# EAGLE library part LT1014 (library IC)
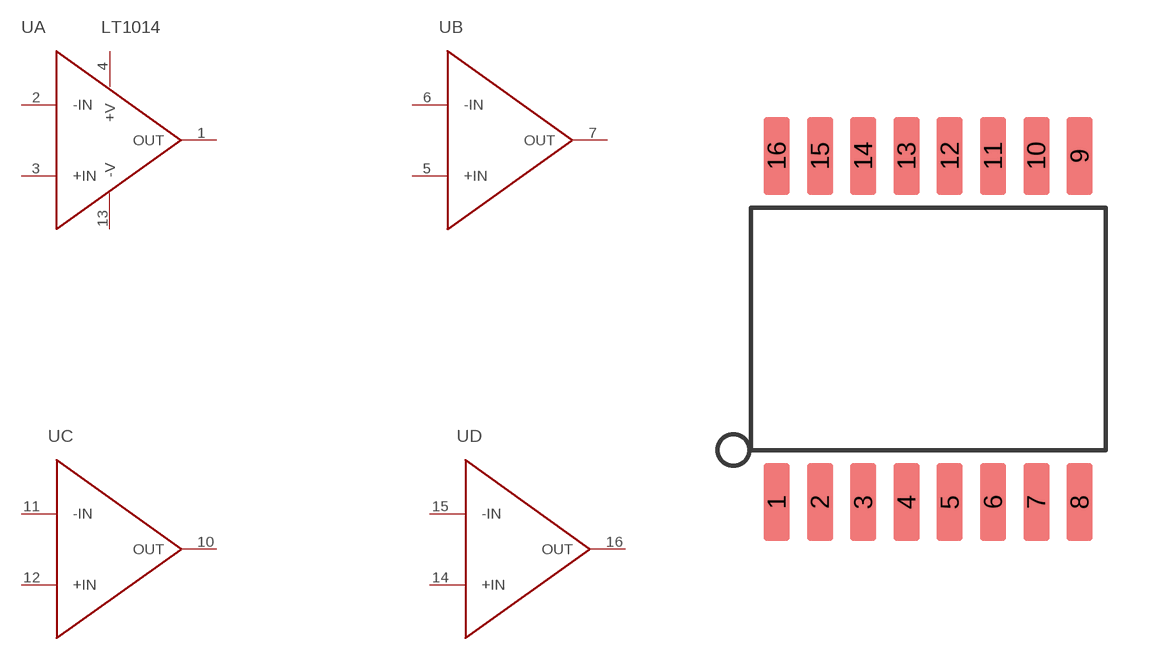
[diagram p68: symbol with the pads of SO16-W; footprint SO16-W]

Designator prefix U; gates A=LT1014 B=LT1014_2 C=LT1014_2 D=LT1014_2

## LT1014-SO16  [SO16-W]
1  A:OUT  out
2  A:-IN  in
3  A:+IN  in
4  A:+V  pwr
5  B:+IN  pwr
6  B:-IN  pwr
7  B:OUT  pwr
10  C:OUT  pwr
11  C:-IN  pwr
12  C:+IN  pwr
13  A:-V  pwr
14  D:+IN  pwr
15  D:-IN  pwr
16  D:OUT  pwr

## Footprint SO16-W (pad centres in mm)
SMALL OUTLINE J LEADS body 7.63 mm
smd 0.762 x 2.286: 1 -4.445,-5.08; 2 -3.175,-5.08; 3 -1.905,-5.08; 4 -0.635,-5.08; 5 0.635,-5.08; 6 1.905,-5.08; 7 3.175,-5.08; 8 4.445,-5.08; 9 4.445,5.08; 10 3.175,5.08; 11 1.905,5.08; 12 0.635,5.08; 13 -0.635,5.08; 14 -1.905,5.08; 15 -3.175,5.08; 16 -4.445,5.08